# EAGLE library part S7-1200_DC/DC/DC (library e-sps)
SPS S7-1200 DC/DC/DC Source: s71200_easy_book_de-DE_de-DE.pdf
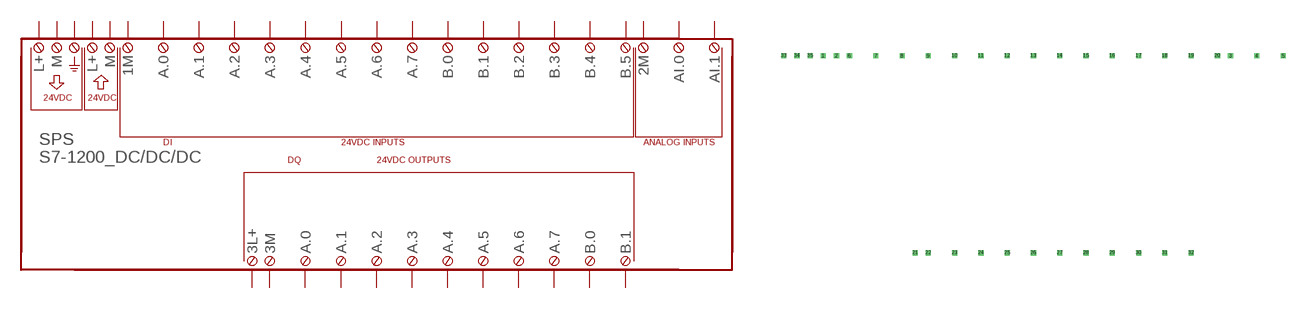
[diagram p3: symbol with the pads of S7-1200_DC/DC/DC; footprint S7-1200_DC/DC/DC]

Designator prefix SPS; gates DI_AB=S7-1200_DI-A8-B5 AI_2=S7-1200_AI-A23 RA1=S7_RAHMEN_LO .1=S7_RAHMEN_LU RA3=S7_RAHMEN_RO RA4=S7_RAHMEN_RU 24VDC=S7-1200_24VDC VERSORGUNG=S7-1200_DC/DC/VERSORGUNG OUT-DC=S7-1200_DQA7-DQB1_DC

## S7-1200_DC/DC/DC  [S7-1200_DC/DC/DC]
1  24VDC:L+  out
2  24VDC:M  out
3  AI_2:2M  pas
4  AI_2:AI.0  pas
5  AI_2:AI.1  pas
6  DI_AB:1M  pas
7  DI_AB:A.0  pas
8  DI_AB:A.1  pas
9  DI_AB:A.2  pas
10  DI_AB:A.3  pas
11  DI_AB:A.4  pas
12  DI_AB:A.5  pas
13  DI_AB:A.6  pas
14  DI_AB:A.7  pas
15  DI_AB:B.0  pas
16  DI_AB:B.1  pas
17  DI_AB:B.2  pas
18  DI_AB:B.3  pas
19  DI_AB:B.4  pas
20  DI_AB:B.5  pas
21  OUT-DC:3L+  pas
22  OUT-DC:3M  pas
23  OUT-DC:A.0  pas
24  OUT-DC:A.1  pas
25  OUT-DC:A.2  pas
26  OUT-DC:A.3  pas
27  OUT-DC:A.4  pas
28  OUT-DC:A.5  pas
29  OUT-DC:A.6  pas
30  OUT-DC:A.7  pas
31  OUT-DC:B.0  pas
32  OUT-DC:B.1  pas
33  VERSORGUNG:L+  in
34  VERSORGUNG:M  in
35  VERSORGUNG:PE  in

## Footprint S7-1200_DC/DC/DC (pad centres in mm)
Dummy
drill 0.5 pad 1 square: 1 -48.26,12.7; 2 -45.72,12.7; 3 30.48,12.7; 4 35.56,12.7; 5 40.64,12.7; 6 -43.18,12.7; 7 -38.1,12.7; 8 -33.02,12.7; 9 -27.94,12.7; 10 -22.86,12.7; 11 -17.78,12.7; 12 -12.7,12.7; 13 -7.62,12.7; 14 -2.54,12.7; 15 2.54,12.7; 16 7.62,12.7; 17 12.7,12.7; 18 17.78,12.7; 19 22.86,12.7; 20 27.94,12.7; 21 -30.48,-25.4; 22 -27.94,-25.4; 23 -22.86,-25.4; 24 -17.78,-25.4; 25 -12.7,-25.4; 26 -7.62,-25.4; 27 -2.54,-25.4; 28 2.54,-25.4; 29 7.62,-25.4; 30 12.7,-25.4; 31 17.78,-25.4; 32 22.86,-25.4; 33 -55.88,12.7; 34 -53.34,12.7; 35 -50.8,12.7